# Altium schematic symbol library 4-Tan SMT.SchLib: 48 symbols
Pins are listed as number, name and electrical type; pins without a type are passive.

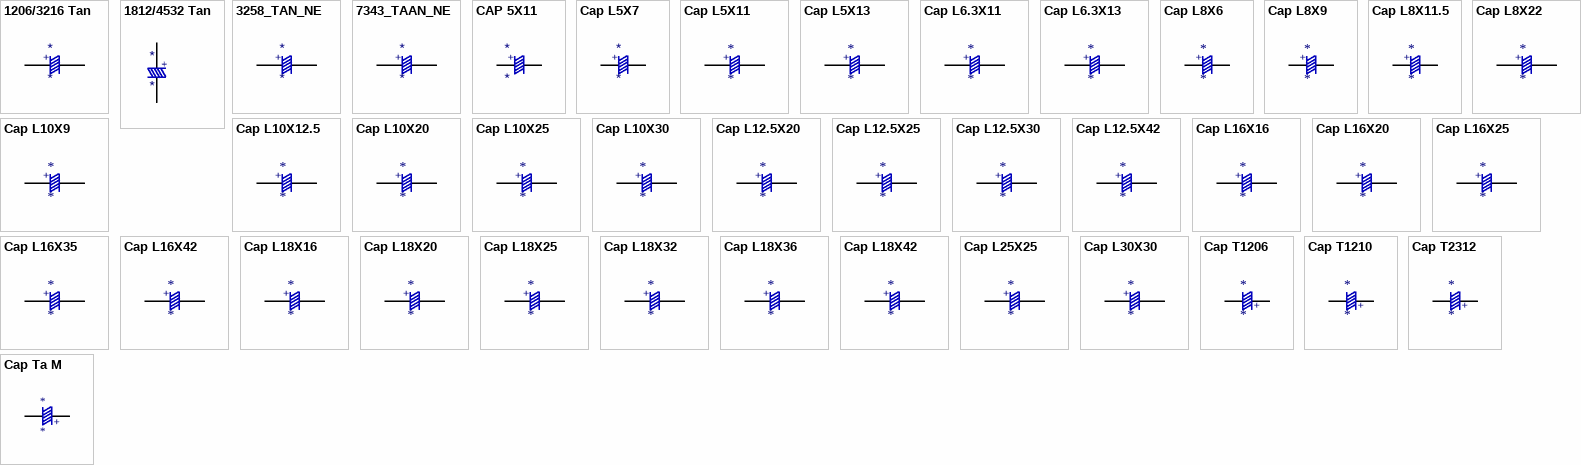
[diagram p0: symbols 1206/3216 Tan to Cap Ta M]

## 1206/3216 Tan
designator *
footprint 1206_3216-18_SMT-TAJ-A (Metric 3216-18)
pins: 1, 2
text: +

## 1812/4532 Tan
designator *
pins: 1, 2
text: +

## 3258_TAN_NE
designator *
footprint 3528_Tan_nE
pins: 1, 2
text: +

## 7343_TAAN_NE
designator *
footprint 7343_Tan_nE
pins: 1, 2
text: +

## CAP 5X11
designator *
footprint PIC_5X11_AECAP
pins: 1, 2
text: +

## Cap L5X7
designator *
footprint CAPPR200-500X700 (Capacitor, Radial, Pin spacing 2.0mm - Body Diameter 5.0mm X Body Height 7mm)
pins: 1, 2
text: +

## Cap L5X11
designator *
footprint PIC_5X11_AECAP
pins: 1, 2
text: +

## Cap L5X13
designator *
footprint PIC_5X13_AECAP
pins: 1, 2
text: +

## Cap L6.3X11
designator *
footprint PIC_6_3X11-AEcap
pins: 1, 2
text: +

## Cap L6.3X13
designator *
footprint PIC_6_3X13-AEcap
pins: 1, 2
text: +

## Cap L8X6
designator *
footprint PIC_8X6_AEcap
pins: 1, 2
text: +

## Cap L8X9
designator *
footprint PIC_8X9_AEcap
pins: 1, 2
text: +

## Cap L8X11.5
designator *
footprint PIC_8X11_5_AEcap
pins: 1, 2
text: +

## Cap L8X22
designator *
footprint PIC_8X22-AEcap
pins: 1, 2
text: +

## Cap L10X9
designator *
footprint PIC_10x9-AECAP
pins: 1, 2
text: +

## Cap L10X12.5
designator *
footprint PIC_10x12_5-AECAP
pins: 1, 2
text: +

## Cap L10X20
designator *
footprint PIC_10X20_AEcap
pins: 1, 2
text: +

## Cap L10X25
designator *
footprint PIC_10X25_AEcap
pins: 1, 2
text: +

## Cap L10X30
designator *
footprint PIC_10x30-AECAP
pins: 1, 2
text: +

## Cap L12.5X20
designator *
footprint PIC_12_5x20-AECAP
pins: 1, 2
text: +

## Cap L12.5X25
designator *
footprint PIC_12_5x25-AECAP
pins: 1, 2
text: +

## Cap L12.5X30
designator *
footprint PIC_12_5x30-AECAP
pins: 1, 2
text: +

## Cap L12.5X42
designator *
footprint PIC_12_5x42-AECAP
pins: 1, 2
text: +

## Cap L16X16
designator *
footprint PIC_16x16-AECAP
pins: 1, 2
text: +

## Cap L16X20
designator *
footprint PIC_16x20-AECAP
pins: 1, 2
text: +

## Cap L16X25
designator *
footprint PIC_16x25-AECAP
pins: 1, 2
text: +

## Cap L16X35
designator *
footprint PIC_16x35_5-AECAP
pins: 1, 2
text: +

## Cap L16X42
designator *
footprint PIC_16x42-AECAP
pins: 1, 2
text: +

## Cap L18X16
designator *
footprint PIC_18x16-AECAP
pins: 1, 2
text: +

## Cap L18X20
designator *
footprint PIC_18x20-AECAP
pins: 1, 2
text: +

## Cap L18X25
designator *
footprint PIC_18x25-AECAP
pins: 1, 2
text: +

## Cap L18X32
designator *
footprint PIC_18x31_5-AECAP
pins: 1, 2
text: +

## Cap L18X36
designator *
footprint PIC_18x35_5-AECAP
pins: 1, 2
text: +

## Cap L18X42
designator *
footprint PIC_18x42-AECAP
pins: 1, 2
text: +

## Cap L25X25
designator *
footprint L-CAP25
pins: 1, 2
text: +

## Cap L30X30
designator *
footprint L-CAP30
pins: 1, 2
text: +

## Cap T1206
designator *
footprint 1206_3216-12_SMT-TAJ-s
pins: 1, 2
text: +

## Cap T1210
designator *
footprint 1210_3528-12_SMT-TAJ-T
pins: 1, 2
text: +

## Cap T2312
designator *
footprint 2312_6023-28_SMT-TAJ-C (Metric 6023-28)
pins: 1, 2
text: +

## Cap Ta M
designator *
AXL_611X312_1100
footprint CAP_AXL_611X312_1100
pins: 1, 2
text: +

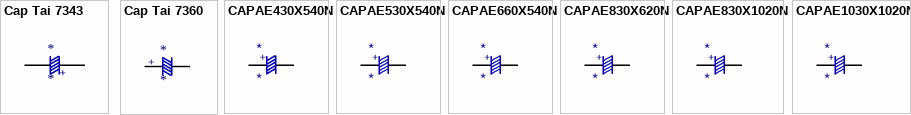
[diagram p1: symbols Cap Tai 7343 to CAPAE1030X1020N]

## Cap Tai 7343
designator *
footprint Cap Tai 7343
pins: 1, 2
text: +

## Cap Tai 7360
designator *
footprint CAP TAI 7360
pins: 1, 2
text: +

## CAPAE430X540N
designator *
footprint CAPAE430X540N (Capacitor, Aluminium Electrolytric, 4.3mm L X 4.3mm W X 5.4mm H, IPC Medium Density)
pins: 1, 2
text: +

## CAPAE530X540N
designator *
footprint CAPAE530X540N (Capacitor, Aluminium Electrolytric, 5.3mm L X 5.3mm W X 5.4mm H, IPC Medium Density)
pins: 1, 2
text: +

## CAPAE660X540N
designator *
footprint CAPAE660X540N (Capacitor, Aluminium Electrolytric, 6.6mm L X 6.6mm W X 5.4mm H, IPC Medium Density)
pins: 1, 2
text: +

## CAPAE830X620N
designator *
footprint CAPAE830X620N (Capacitor, Aluminium Electrolytric, 8.3mm L X 8.3mm W X 6.2mm H, IPC Medium Density)
pins: 1, 2
text: +

## CAPAE830X1020N
designator *
footprint CAPAE830X1020N (Capacitor, Aluminium Electrolytric, 8.3mm L X 8.3mm W X 10.2mm H, IPC Medium Density)
pins: 1, 2
text: +

## CAPAE1030X1020N
designator *
footprint CAPAE1030X1020N (Capacitor, Aluminium Electrolytric, 10.3mm L X 10.3mm W X 10.2mm H, IPC Medium Density)
pins: 1, 2
text: +